# Altium schematic symbol library ECG.SchLib: 1 symbol
Pins are listed as number, name and electrical type; pins without a type are passive.

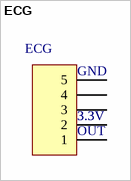
[diagram p0: symbol ECG]

## ECG
designator ECG  (value not drawn)
footprint ECG
pins: 1, 2, 3, 4, 5
text: GND; 3.3V; OUT